# EAGLE library part 610X2221821 (library Wurth_Elektronik_Electromechanic_Board_to_Board_Connectors_rev16a)
WR-PHD 2.54mm Dual SMT Socket Header, 22 Pins=>Code : Con_BTB_SHD_2.54_1_SMT_610x2221821(packageing:x = 0: Tube x = 3: Tape & Reel with Cap; 600 pcs/Reel) <http://katalog.we-online.de/media/images/eican/Con_BTB_SHD_2.54_1_SMT_6100xx21821_pf2.jpg> 6100xx21821 Details see: http://katalog.we-online.de/en/em/610_0xx_218_21 6103xx21821 Details see: http://katalog.we-online.de/en/em/PHD_2_54_SMT_DUAL_SOCKET_HEADER_REEL_6103XX21821 2014 (C) Würth Elektronik
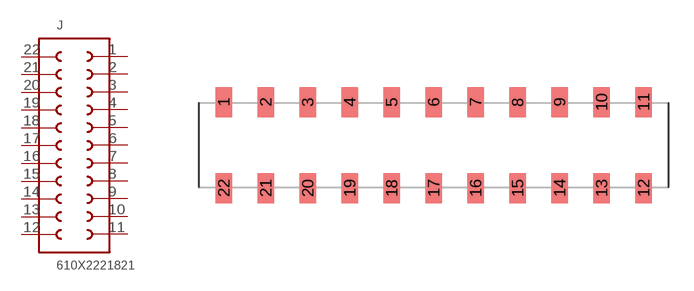
[diagram p220: symbol with the pads of 610X2221821; footprint 610X2221821]

Designator prefix J

## 610X2221821  [610X2221821]
1  1  pas
2  2  pas
3  3  pas
4  4  pas
5  5  pas
6  6  pas
7  7  pas
8  8  pas
9  9  pas
10  10  pas
11  11  pas
12  12  pas
13  13  pas
14  14  pas
15  15  pas
16  16  pas
17  17  pas
18  18  pas
19  19  pas
20  20  pas
21  21  pas
22  22  pas

## Footprint 610X2221821 (pad centres in mm)
WR-PHD 2.54mm Dual SMT Socket Header, 22 Pins
smd 1 x 1.8: 1 -12.7,2.6; 2 -10.16,2.6; 3 -7.62,2.6; 4 -5.08,2.6; 5 -2.54,2.6; 6 0,2.6; 7 2.54,2.6; 8 5.08,2.6; 9 7.62,2.6; 10 10.16,2.6; 11 12.7,2.6; 12 12.7,-2.6; 13 10.16,-2.6; 14 7.62,-2.6; 15 5.08,-2.6; 16 2.54,-2.6; 17 0,-2.6; 18 -2.54,-2.6; 19 -5.08,-2.6; 20 -7.62,-2.6; 21 -10.16,-2.6; 22 -12.7,-2.6